# EAGLE library part 4-794619-6 (library actuador)
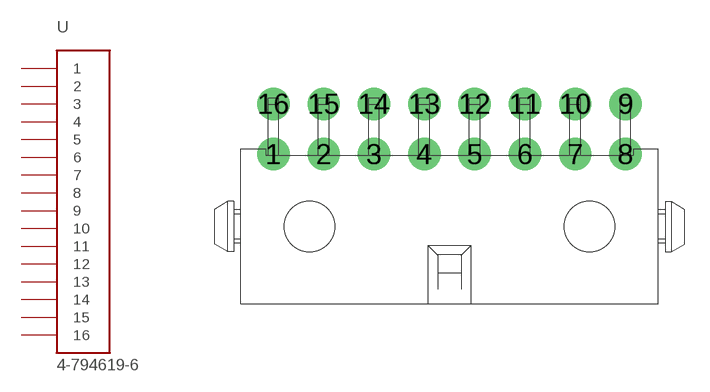
[diagram p2: symbol with the pads of 4-794619-6; footprint 4-794619-6]

Designator prefix -

## 4-794619-6  [4-794619-6]
1  1
2  2
3  3
4  4
5  5
6  6
7  7
8  8
9  9
10  10
11  11
12  12
13  13
14  14
15  15
16  16

## Footprint 4-794619-6 (pad centres in mm)
drill 1.02 pad 1.93: 1 -10.5,2.8; 2 -7.5,2.8; 3 -4.5,2.8; 4 -1.5,2.8; 5 1.5,2.8; 6 4.5,2.8; 7 7.5,2.8; 8 10.5,2.8; 9 10.5,5.8; 10 7.5,5.8; 11 4.5,5.8; 12 1.5,5.8; 13 -1.5,5.8; 14 -4.5,5.8; 15 -7.5,5.8; 16 -10.5,5.8
hole 3 at 8.35,-1.52
hole 3 at -8.35,-1.52